# Altium footprint library ds1069_4mvw6x.PcbLib: 1 footprints
Each footprint in its own frame and in the unit in brackets; x right, y up, seen from the top. Pads: shape width x height; smd on the part's side, far side on the other; paste and mask are expansions set on the pad; w line width, h text height; cw(c..) or ccw(c..) is an arc to the next point about the centre after c.
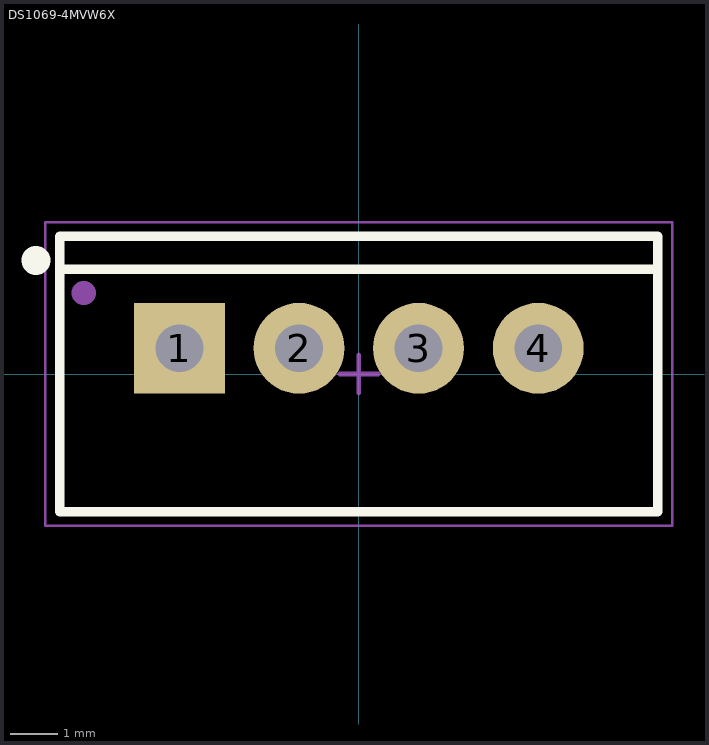
[diagram p0: the footprint, top view; thin cyan lines are the x and y axes]

## DS1069-4MVW6X [mm]
height 7
pads (4):
  rect 1.9x1.9 hole 1: 1(-3.75,0.538)
  round 1.9 hole 1: 2(-1.25,0.538) 3(1.25,0.538) 4(3.75,0.538)
Top Overlay:
  circle w0.6: c-6.751,2.375 r0.001
  lines w0.2: -6.251,2.192 6.25,2.192 ; -6.251,2.875 -6.251,-2.875 6.25,-2.875 ; -6.25,2.875 6.25,2.875 ; 6.251,-2.875 6.251,2.875
Top Comment:
  text ".Comment" at 1,3.3 h1.2
Top Designator:
  text ".Designator" at -0.4,3.3 h1.2
Top Component Outline:
  lines w0.1: -6.251,2.192 6.25,2.192 ; -6.251,-2.875 -6.251,2.875 6.251,2.875 6.25,-2.875 -6.251,-2.875
  lines w0.5: -5.751,1.692 -5.746,1.697
Top Courtyard (Mech15):
  lines w0.05: -6.551,-3.175 6.55,-3.175 6.55,3.175 -6.551,3.175 -6.551,-3.175
  lines w0.1: -0.4,0 0.4,0 ; 0,-0.4 0,0.4
3D body "DS1069-4 (CWF-4).step": height 7, standoff -3.5, extent -6.25,-2.875 6.25,2.875